# Altium footprint library led-citizen-electronics.PCBLIB: 1 footprints
Each footprint in its own frame and in the unit in brackets; x right, y up, seen from the top. Pads: shape width x height; smd on the part's side, far side on the other; paste and mask are expansions set on the pad; w line width, h text height; cw(c..) or ccw(c..) is an arc to the next point about the centre after c.
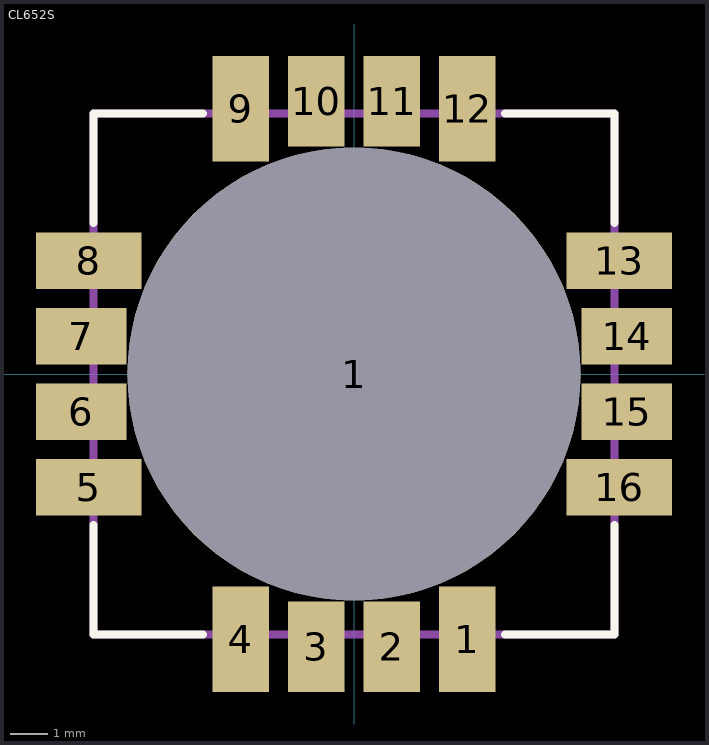
[diagram p0: the footprint, top view; thin cyan lines are the x and y axes]

## CL652S [mm]
pads (17):
  round 12 hole 12: 1(0,0)
  rect 1.5x2.8 smd: 1(3,-7.025) 4(-3,-7.025) 9(-3,7.025) 12(3,7.025)
  rect 1.5x2.4 smd: 2(1,-7.225) 3(-1,-7.225) 10(-1,7.225) 11(1,7.225)
  rect 2.8x1.5 smd: 5(-7.025,-3) 8(-7.025,3) 13(7.025,3) 16(7.025,-3)
  rect 2.4x1.5 smd: 6(-7.225,-1) 7(-7.225,1) 14(7.225,1) 15(7.225,-1)
Top Overlay:
  circle w0.203: c0,0 r4.9
  lines w0.203: -6.9,-4 -6.9,-6.9 -4,-6.9 ; -6.9,4 -6.9,6.9 -4,6.9 ; 4,-6.9 6.9,-6.9 6.9,-4 ; 4,6.9 6.9,6.9 6.9,4
Mechanical 16:
  region: 0,0 0.254,0 0.254,0.254 0,0.254
  region: 0,0 0.254,0 0.254,0.254 0,0.254
  region: 0,0 0.254,0 0.254,0.254 0,0.254
  region: 0,0 0.254,0 0.254,0.254 0,0.254
  region: 0,0 0.254,0 0.254,0.254 0,0.254
  region: 0,0 0.254,0 0.254,0.254 0,0.254
  region: 0,0 0.254,0 0.254,0.254 0,0.254
  region: 0,0 0.254,0 0.254,0.254 0,0.254
  region: 0,0 0.254,0 0.254,0.254 0,0.254
  region: 0,0 0.254,0 0.254,0.254 0,0.254
  region: 0,0 0.254,0 0.254,0.254 0,0.254
  region: 0,0 0.254,0 0.254,0.254 0,0.254
  region: 0,0 0.254,0 0.254,0.254 0,0.254
  region: 0,0 0.254,0 0.254,0.254 0,0.254
  region: 0,0 0.254,0 0.254,0.254 0,0.254
  region: 0,0 0.254,0 0.254,0.254 0,0.254
  lines w0.203: -6.9,-6.9 6.9,-6.9 6.9,6.9 -6.9,6.9 -6.9,-6.9